# EAGLE library part APA-102-2020 (library pwned-io)
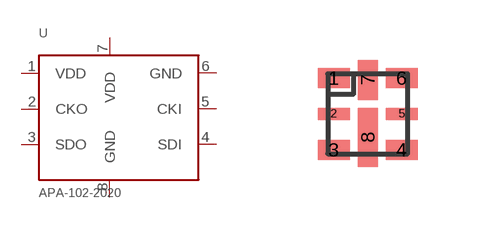
[diagram p0: symbol with the pads of APA-102-2020; footprint APA-102-2020]

Designator prefix -

## APA-102-2020  [APA-102-2020]
1  VDD
2  CKO
3  SDO
4  SDI
5  CKI
6  GND
7  VDD
8  GND

## Footprint APA-102-2020 (pad centres in mm)
smd 0.8 x 0.5: 1 -0.85,0.9; 3 -0.85,-0.9; 4 0.85,-0.9; 6 0.85,0.9
smd 0.8 x 0.3: 2 -0.85,0; 5 0.85,0
smd 0.5 x 1: 7 0,0.85
smd 0.5 x 1.48: 8 0,-0.59